# EAGLE library part KGM-LIPOWER (library sf-keyglovekit)
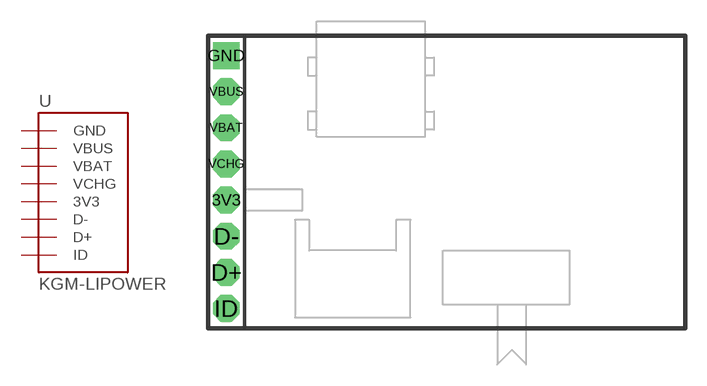
[diagram p4: symbol with the pads of KGM-LIPOWER; footprint KGM-LIPOWER]

Designator prefix -

## KGM-LIPOWER  [KGM-LIPOWER]
3V3  3V3  pwr
D+  D+
D-  D-
GND  GND  pwr
ID  ID
VBAT  VBAT  pwr
VBUS  VBUS  pwr
VCHG  VCHG  pwr

## Footprint KGM-LIPOWER (pad centres in mm)
drill 1.016 pad 1.88 octagon: 3V3 1.27,9.017; D+ 1.27,3.937; D- 1.27,6.477; ID 1.27,1.397; VBAT 1.27,14.097; VBUS 1.27,16.637; VCHG 1.27,11.557
drill 1.016 pad 1.88 square: GND 1.27,19.177